# Altium schematic symbol library EVP-BV2C3L000.SchLib: 1 symbol
Pins are listed as number, name and electrical type; pins without a type are passive.

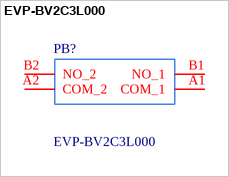
[diagram p0: symbol EVP-BV2C3L000]

## EVP-BV2C3L000
designator PB?
Tactile Switches 6.5mm 6.2mm SMD Op Force 1.6N; Manufacturer_Name: Panasonic; Geometry.Height: 4.5mm; Mouser Part Number: 667-EVP-BV2C3L000; Mouser Price/Stock: https://www.mouser.co.uk/ProductDetail/Panasonic/EVP-BV2C3L000?qs=MyNHzdoqoQLjk3IN4ali%252Bg%3D%3D; Manufacturer_Part_Number: EVP-BV2C3L000; Datasheet Link: https://media.digikey.com/pdf/Data%20Sheets/Panasonic%20Electronic%20Components/EVP-BV_Type_DS.pdf
footprint EVPBV2C3L000
pins: A1 COM_1, A2 COM_2, B1 NO_1, B2 NO_2